# Altium footprint library LCD displays.PcbLib: 2 footprints
Each footprint in its own frame and in the unit in brackets; x right, y up, seen from the top. Pads: shape width x height; smd on the part's side, far side on the other; paste and mask are expansions set on the pad; w line width, h text height; cw(c..) or ccw(c..) is an arc to the next point about the centre after c.
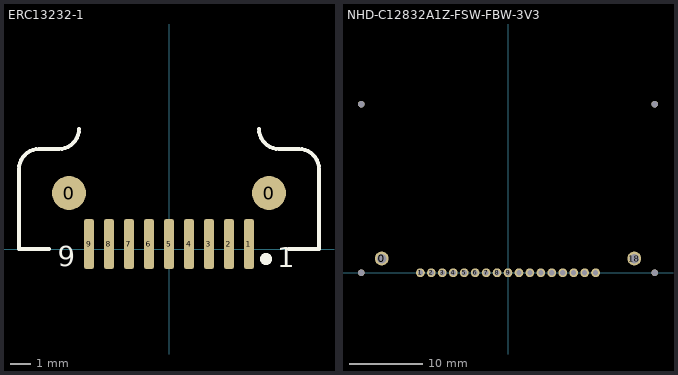
[diagram p0: the footprints below, top view; thin cyan lines are the x and y axes]

## ERC13232-1 [mm]
pads (11):
  round 1.7 smd: 0(-5,2.8) 0(5,2.8)
  rrect50% 0.5x2.5 smd: 1(4,0.25) 2(3,0.25) 3(2,0.25) 4(1,0.25) 5(0,0.25) 6(-1,0.25) 7(-2,0.25) 8(-3,0.25) 9(-4,0.25)
Top Overlay:
  circle w0.3: c4.85,-0.5 r0.15
  lines w0.2: -6,0 -7.5,0 -7.5,4 cw(c-6.5,4) -6.5,5 -5.5,5 ccw(c-5.5,6) -4.5,6 ; 4.5,6 ccw(c5.5,6) 5.5,5 6.5,5 cw(c6.5,4) 7.5,4 7.5,0 6,0
  text "1" at 5.425,-0.9 h1
  text "9" at -5.575,-0.875 h1

## NHD-C12832A1Z-FSW-FBW-3V3 [mm]
pads (23):
  round 1.9 hole 1.3: 0(-17.3,1.95) 18(17.3,1.95)
  round 1.2 hole 0.7: 1(-12,0) 2(-10.5,0) 3(-9,0) 4(-7.5,0) 5(-6,0) 6(-4.5,0) 7(-3,0) 8(-1.5,0) 9(0,0) 10(1.5,0) 11(3,0) 12(4.5,0) 13(6,0) 14(7.5,0) 15(9,0) 16(10.5,0) 17(12,0)
  round 0.9 hole 0.9 unplated: 20(-20.1,0) 21(-20.1,23.1) 22(20.1,23.1) 23(20.1,0)
3D body: height 4.2, standoff 0, extent -20,8 20,23
3D body: height 4, standoff 0, extent -21,-1 21,24